# EAGLE library part 74HC165 (library lbr_controller)
Parallel to Serial Shift Register
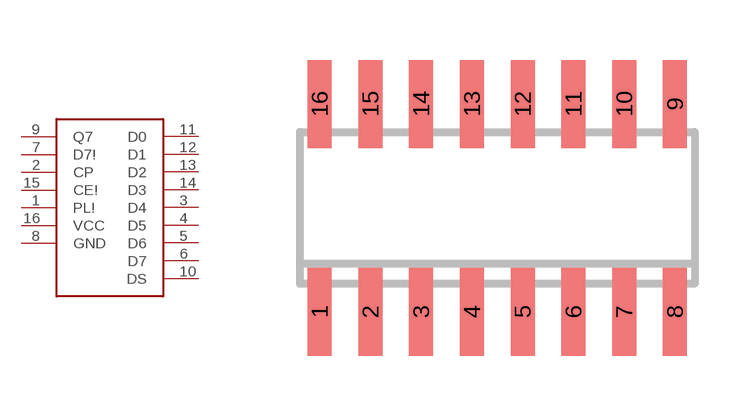
[diagram p1: symbol with the pads of SO16; footprint SO16]

Designator prefix -

## 74HC165  [SO16]
1  PL!
2  CP
3  D4
4  D5
5  D6
6  D7
7  D7!
8  GND
9  Q7
10  DS
11  D0
12  D1
13  D2
14  D3
15  CE!
16  VCC

## Footprint SO16 (pad centres in mm)
SMALL OUTLINE INTEGRATED CIRCUIT body 3.9 mm/JEDEC MS-012AC
smd 0.6 x 2.2: 1 -4.445,-2.6; 2 -3.175,-2.6; 3 -1.905,-2.6; 4 -0.635,-2.6; 5 0.635,-2.6; 6 1.905,-2.6; 7 3.175,-2.6; 8 4.445,-2.6; 9 4.445,2.6; 10 3.175,2.6; 11 1.905,2.6; 12 0.635,2.6; 13 -0.635,2.6; 14 -1.905,2.6; 15 -3.175,2.6; 16 -4.445,2.6